# EAGLE library part 310030161_ETA3410D2I-T (library Seeed-OPL-2017-01-IC-Akita)
ETA;ETA3410D2I-T, SMD IC PMIC;DFN(2*2)-8, SKU: 310030161
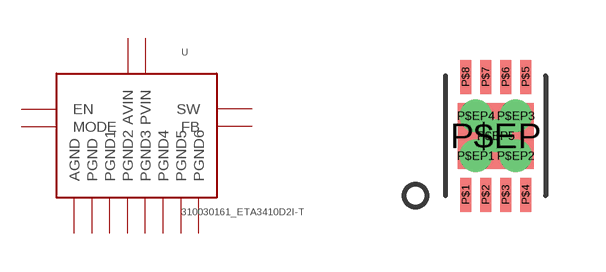
[diagram p4: symbol with the pads of DFN8; footprint DFN8]

Designator prefix U

## 310030161_ETA3410D2I-T  [DFN8]
P$1  PGND
P$2  SW
P$3  AGND
P$4  FB
P$5  EN
P$6  MODE
P$7  AVIN
P$8  PVIN
P$EP  PGND1
P$EP1  PGND2
P$EP2  PGND3
P$EP3  PGND4
P$EP4  PGND5
P$EP5  PGND6

## Footprint DFN8 (pad centres in mm)
DFN8 (2x2mm) with ExposePad
smd 0.28 x 0.85: P$1 -0.75,-1.475; P$2 -0.25,-1.475; P$3 0.25,-1.475; P$4 0.75,-1.475; P$5 0.75,1.475; P$6 0.25,1.475; P$7 -0.25,1.475; P$8 -0.75,1.475
smd 1.9 x 1.65: P$EP 0,0
drill 0.3 pad 0.406: P$EP1 -0.5,-0.5; P$EP2 0.5,-0.5; P$EP3 0.5,0.5; P$EP4 -0.5,0.5; P$EP5 0,0